# Altium footprint library 2020-01-07_17-53-12.PcbLib: 1 footprints
Each footprint in its own frame and in the unit in brackets; x right, y up, seen from the top. Pads: shape width x height; smd on the part's side, far side on the other; paste and mask are expansions set on the pad; w line width, h text height; cw(c..) or ccw(c..) is an arc to the next point about the centre after c.
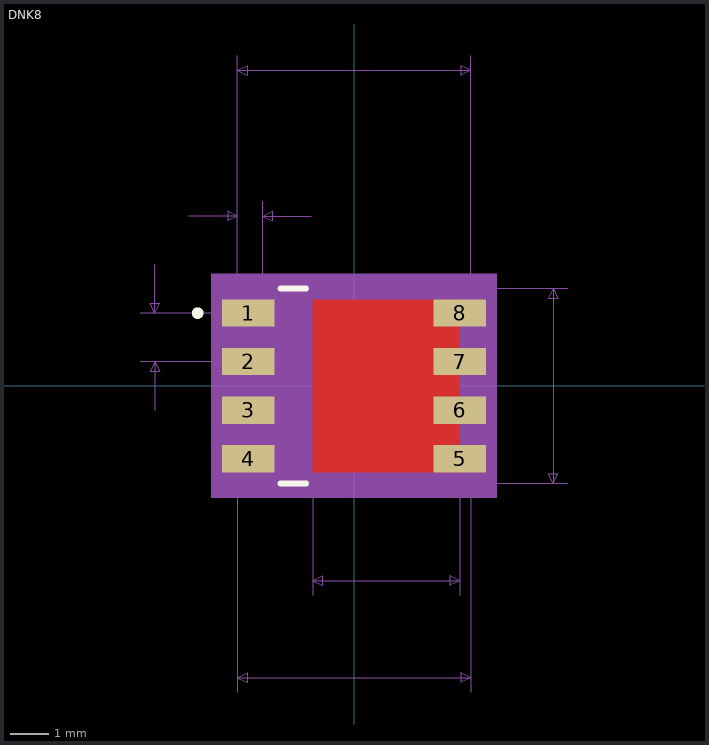
[diagram p0: the footprint, top view; thin cyan lines are the x and y axes]

## DNK8 [mm]
pads (8):
  rect 1.372x0.71 smd paste-0.673: 1(-2.77,1.905) 2(-2.77,0.635) 3(-2.77,-0.635) 4(-2.77,-1.905) 5(2.77,-1.905) 6(2.77,-0.635) 7(2.77,0.635) 8(2.77,1.905)
Top Layer:
  region: 2.765,-2.26 2.765,2.26 -1.085,2.26 -1.085,-2.26
  region: 2.765,-2.26 2.765,2.26 -1.085,2.26 -1.085,-2.26
Top Overlay:
  circle w0.152: c-4.091,1.905 r0.076
  lines w0.152: -1.921,-2.55 -1.248,-2.55 ; -1.921,2.55 -1.248,2.55
Top Paste:
  region: -1.039,-0.15 -1.039,-0.896 0.255,-0.896 0.255,-0.15
  region: -1.039,1.196 -1.039,1.942 0.255,1.942 0.255,1.196
  region: -1.039,0.15 -1.039,0.896 0.255,0.896 0.255,0.15
  region: -1.039,-1.196 -1.039,-1.942 0.255,-1.942 0.255,-1.196
  region: -1.039,1.196 -1.039,1.942 0.255,1.942 0.255,1.196
  region: 0.605,0.15 0.605,0.896 1.899,0.896 1.899,0.15
  region: 0.605,-1.196 0.605,-1.942 1.899,-1.942 1.899,-1.196
  region: 0.605,1.196 0.605,1.942 1.899,1.942 1.899,1.196
  region: -2.185,2.159 -3.355,2.159 -3.355,1.651 -2.185,1.651
  region: -2.185,0.889 -3.355,0.889 -3.355,0.381 -2.185,0.381
  region: -2.185,-0.381 -3.355,-0.381 -3.355,-0.889 -2.185,-0.889
  region: -2.185,-1.651 -3.355,-1.651 -3.355,-2.159 -2.185,-2.159
  region: 3.355,-1.651 2.185,-1.651 2.185,-2.159 3.355,-2.159
  region: 3.355,-0.381 2.185,-0.381 2.185,-0.889 3.355,-0.889
  region: 3.355,0.889 2.185,0.889 2.185,0.381 3.355,0.381
  region: 3.355,2.159 2.185,2.159 2.185,1.651 3.355,1.651
  region: 0.605,1.196 0.605,1.942 1.899,1.942 1.899,1.196
  region: 0.605,1.196 0.605,1.942 1.899,1.942 1.899,1.196
  region: 0.605,-0.15 0.605,-0.896 1.899,-0.896 1.899,-0.15
Top Solder:
  region: -2.084,2.26 -3.456,2.26 -3.456,1.55 -2.084,1.55
  region: -2.084,0.99 -3.456,0.99 -3.456,0.28 -2.084,0.28
  region: -2.084,-0.28 -3.456,-0.28 -3.456,-0.99 -2.084,-0.99
  region: -2.084,-1.55 -3.456,-1.55 -3.456,-2.26 -2.084,-2.26
  region: 3.456,-1.55 2.084,-1.55 2.084,-2.26 3.456,-2.26
  region: 3.456,-0.28 2.084,-0.28 2.084,-0.99 3.456,-0.99
  region: 3.456,0.99 2.084,0.99 2.084,0.28 3.456,0.28
  region: 3.456,2.26 2.084,2.26 2.084,1.55 3.456,1.55
  region: 2.765,-2.26 2.765,2.26 -1.085,2.26 -1.085,-2.26
Mechanical 5:
  region: 3.736,-2.931 -3.736,-2.931 -3.736,2.931 3.736,2.931
Mechanical 7:
  lines w0.025: -5.59,0.635 -2.669,0.635 ; -5.59,1.905 -2.669,1.905 ; -5.209,-0.635 -5.209,0.635 ; -5.209,3.175 -5.209,1.905 ; -4.32,4.445 -3.05,4.445 ; -3.05,-8.011 -3.05,-2.55 ; -3.05,4.826 -3.05,1.905 -3.05,8.636 ; -2.39,1.905 -2.39,4.826 ; -1.12,4.445 -2.39,4.445 ; -1.085,-5.471 -1.085,-2.26 ; 2.765,-5.471 2.765,-2.26 ; 3.05,-8.011 3.05,-2.55 5.59,-2.55 ; 3.05,1.905 3.05,8.636 ; 3.05,2.55 5.59,2.55 ; -5.209,0.635 -5.336,0.381 -5.082,0.381 -5.209,0.635 ; -5.209,1.905 -5.336,2.159 -5.082,2.159 -5.209,1.905 ; -3.05,-7.63 3.05,-7.63 ; -3.05,-7.63 -2.796,-7.503 -2.796,-7.757 -3.05,-7.63 ; -3.05,4.445 -3.304,4.572 -3.304,4.318 -3.05,4.445 ; -3.05,8.255 3.05,8.255 ; -3.05,8.255 -2.796,8.382 -2.796,8.128 -3.05,8.255 ; -2.39,4.445 -2.136,4.572 -2.136,4.318 -2.39,4.445 ; -1.085,-5.09 2.765,-5.09 ; -1.085,-5.09 -0.831,-4.963 -0.831,-5.217 -1.085,-5.09 ; 2.765,-5.09 2.511,-4.963 2.511,-5.217 2.765,-5.09 ; 3.05,-7.63 2.796,-7.503 2.796,-7.757 3.05,-7.63 ; 3.05,8.255 2.796,8.382 2.796,8.128 3.05,8.255 ; 5.209,-2.55 5.209,2.55 ; 5.209,-2.55 5.082,-2.296 5.336,-2.296 5.209,-2.55 ; 5.209,2.55 5.082,2.296 5.336,2.296 5.209,2.55
  text "Default Padstyle: RX54p02Y27p95D0T" at -10.795,-12.075 h1.27
  text "Alt 1 Padstyle: OX60Y90D30P" at -8.572,-13.98 h1.27
  text "Alt 2 Padstyle: OX90Y60D30P" at -8.572,-15.885 h1.27
  text "0.2401575in/6.1mm" at -2.699,8.763 h0.64
  text "2.598425E-02in/0.66mm" at -6.054,4.953 h0.64
  text "0.05in/1.27mm" at -9.844,0.953 h0.64
  text "0.2007874in/5.1mm" at 5.717,-0.318 h0.64
  text "0.2401575in/6.1mm" at -2.699,-8.773 h0.64
  text "0.1515747in/3.85mm" at -3.095,-6.233 h0.64
Mechanical 13:
  circle w0: c-4.091,1.905 r0.076
  lines w0: -0.305,2.55 ccw(c0,2.55) 0.305,2.55
  lines w0.025: -3.05,-2.55 3.05,-2.55 3.05,2.55 -3.05,2.55 -3.05,-2.55
Mechanical 15:
  region: 3.609,-2.804 -3.609,-2.804 -3.609,2.804 3.609,2.804
  lines w0.152: -3.609,-2.804 -3.609,2.804 3.609,2.804 3.609,-2.804 -3.609,-2.804
3D body: height 0.25, standoff 0, extent 0,0 0.254,0.254